# Altium integrated library Capacitor - Aluminium TH.IntLib: 4591 symbols (part 11 of 68)
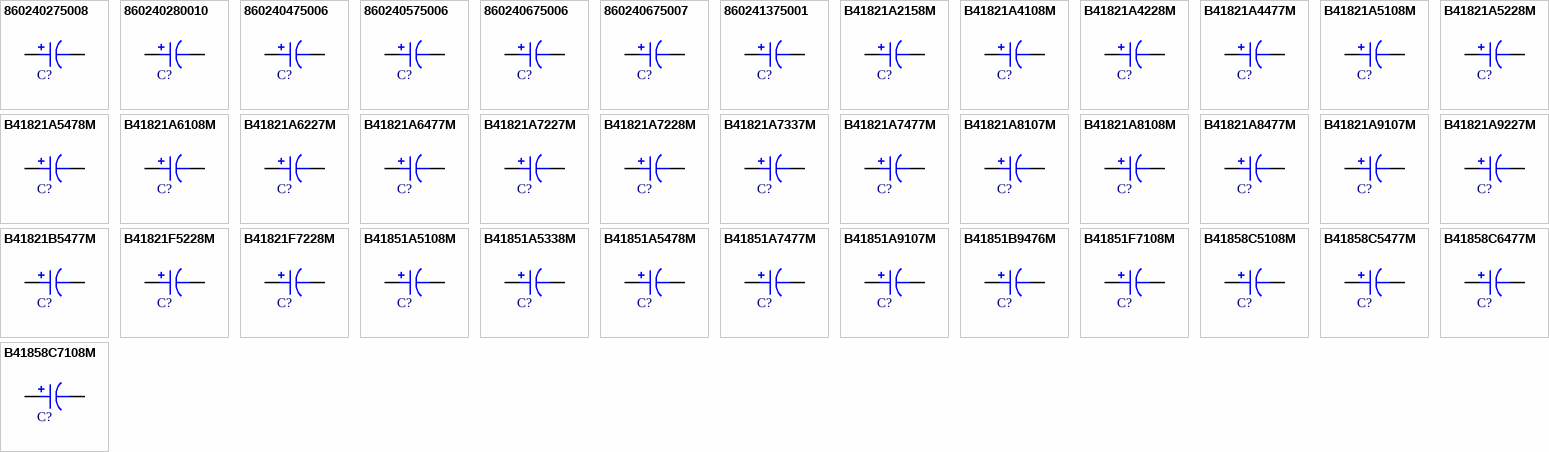
[diagram p124: symbols 860240275008 to B41858C7108M]

## 860240575006
designator C?, comment 100uF  (value not drawn)
CAP 100 UF 20% 35 V; Part Number: 860240575006; Manufacturer: Wurth Electronics Inc; TemperatureRange: -40C ~ 105C; Voltage: 35V; Type: Polar; Ripple Current: 390mA @ 100kHz; Value: 100uF; PartId: 24958; Supplier 1: Digi-Key; Supplier Part Number 1: 732-9321-1-ND; ComponentLink1Description: Datasheet; ComponentLink1URL: http://katalog.we-online.de/pbs/datasheet/860240575006.pdf; ComponentLink2Description: Digi-Key Listing; ComponentLink2URL: https://www.digikey.com/product-detail/en/wurth-electronics-inc/860240575006/732-9321-1-ND/5729259; Tolerance: 20%; Price: 0.52; Device Package: Radial, Can, 10mm
footprint CAP AL TH D10 L5 H14.5
pins: 1, 2

## 860240675006
designator C?, comment 68uF  (value not drawn)
CAP 68 UF 20% 50 V; Part Number: 860240675006; Manufacturer: Wurth Electronics Inc; TemperatureRange: -40C ~ 105C; Voltage: 50V; Type: Polar; Ripple Current: 356mA @ 100kHz; Value: 68uF; PartId: 24788; Supplier 1: Digi-Key; Supplier Part Number 1: 732-9293-1-ND; ComponentLink1Description: Datasheet; ComponentLink1URL: http://katalog.we-online.de/pbs/datasheet/860240675006.pdf; ComponentLink2Description: Digi-Key Listing; ComponentLink2URL: https://www.digikey.com/product-detail/en/wurth-electronics-inc/860240675006/732-9293-1-ND/5729231; Tolerance: 20%; Price: 0.44; Device Package: Radial, Can, 10mm
footprint CAP AL TH D10 L5 H14.5
pins: 1, 2

## 860240675007
designator C?, comment 100uF  (value not drawn)
CAP 100 UF 20% 50 V; Part Number: 860240675007; Manufacturer: Wurth Electronics Inc; TemperatureRange: -40C ~ 105C; Voltage: 50V; Type: Polar; Ripple Current: 500mA @ 100kHz; Value: 100uF; PartId: 25133; Supplier 1: Digi-Key; Supplier Part Number 1: 732-9294-3-ND; ComponentLink1Description: Datasheet; ComponentLink1URL: http://katalog.we-online.de/pbs/datasheet/860240675007.pdf; ComponentLink2Description: Digi-Key Listing; ComponentLink2URL: https://www.digikey.com/product-detail/en/wurth-electronics-inc/860240675007/732-9294-3-ND/5727524; Tolerance: 20%; Price: 0.3578; Device Package: Radial, Can, 10mm
footprint CAP AL TH D10 L5 H17.5
pins: 1, 2

## 860241375001
designator C?, comment 6.8uF  (value not drawn)
CAP 6.8 UF 20% 400 V; Part Number: 860241375001; Manufacturer: Wurth Electronics Inc; TemperatureRange: -25C ~ 105C; Voltage: 400V; Type: Polar; Ripple Current: 220mA @ 100kHz; Value: 6.8uF; PartId: 24720; Supplier 1: Digi-Key; Supplier Part Number 1: 732-9300-3-ND; ComponentLink1Description: Datasheet; ComponentLink1URL: http://katalog.we-online.de/pbs/datasheet/860241375001.pdf; ComponentLink2Description: Digi-Key Listing; ComponentLink2URL: https://www.digikey.com/product-detail/en/wurth-electronics-inc/860241375001/732-9300-3-ND/5727530; Tolerance: 20%; Price: 0.4057; Device Package: Radial, Can, 10mm
footprint CAP AL TH D10 L5 H14.5
pins: 1, 2

## B41821A2158M
designator C?, comment 1500uF  (value not drawn)
CAP ALUM 1500UF 20% 6.3V RADIAL; Part Number: B41821A2158M; Manufacturer: EPCOS (TDK); Type: Polar; Ripple Current: 750mA @ 120Hz; Value: 1500uF; PartId: 25189; Supplier 1: Digi-Key; Supplier Part Number 1: 495-5980-ND; ComponentLink1Description: Datasheet; ComponentLink1URL: http://en.tdk.eu/inf/20/30/db/aec_2013/B41821_B43821.pdf; ComponentLink2Description: Digi-Key Listing; ComponentLink2URL: https://www.digikey.com/product-detail/en/epcos-tdk/B41821A2158M/495-5980-ND/3543469; Tolerance: 20%; Voltage: 6.3V; Price: 0.48; Device Package: Radial, Can, 10mm
footprint CAP AL TH D10 L5 H17.5
pins: 1, 2

## B41821A4108M
designator C?, comment 1000uF  (value not drawn)
CAP ALUM 1000UF 20% 16V RADIAL; Part Number: B41821A4108M; Manufacturer: EPCOS (TDK); TemperatureRange: -40C ~ 85C; Type: Polar; Ripple Current: 790mA @ 120Hz; Value: 1000uF; PartId: 25211; Supplier 1: Digi-Key; Supplier Part Number 1: 495-5981-ND; ComponentLink1Description: Datasheet; ComponentLink1URL: http://en.tdk.eu/inf/20/30/db/aec_2013/B41821_B43821.pdf; ComponentLink2Description: Digi-Key Listing; ComponentLink2URL: https://www.digikey.com/product-detail/en/epcos-tdk/B41821A4108M/495-5981-ND/3543484; Tolerance: 20%; Voltage: 16V; Price: 0.52; Device Package: Radial, Can, 10mm
footprint CAP AL TH D10 L5 H17.5
pins: 1, 2

## B41821A4228M
designator C?, comment 2200uF  (value not drawn)
CAP ALUM 2200UF 20% 16V RADIAL; Part Number: B41821A4228M; Manufacturer: EPCOS (TDK); TemperatureRange: -40C ~ 85C; Type: Polar; Value: 2200uF; PartId: 23956; Supplier 1: Digi-Key; Supplier Part Number 1: 495-6046-ND; ComponentLink1Description: Datasheet; ComponentLink1URL: http://en.tdk.eu/inf/20/30/db/aec_2013/B41821_B43821.pdf; ComponentLink2Description: Digi-Key Listing; ComponentLink2URL: https://www.digikey.com/product-detail/en/epcos-tdk/B41821A4228M/495-6046-ND/3544301; Tolerance: 20%; Voltage: 16V; Price: 0.98; Device Package: Radial, Can, 12.5mm
footprint CAP AL TH D12.5 L5 H27
pins: 1, 2

## B41821A4477M
designator C?, comment 470uF  (value not drawn)
CAP ALUM 470UF 20% 16V RADIAL; Part Number: B41821A4477M; Manufacturer: EPCOS (TDK); TemperatureRange: -40C ~ 85C; Type: Polar; Value: 470uF; PartId: 24874; Supplier 1: Digi-Key; Supplier Part Number 1: 495-5982-ND; ComponentLink1Description: Datasheet; ComponentLink1URL: http://en.tdk.eu/inf/20/30/db/aec_2013/B41821_B43821.pdf; ComponentLink2Description: Digi-Key Listing; ComponentLink2URL: https://www.digikey.com/product-detail/en/epcos-tdk/B41821A4477M/495-5982-ND/3543492; Tolerance: 20%; Voltage: 16V; Price: 0.48; Device Package: Radial, Can, 10mm
footprint CAP AL TH D10 L5 H14.5
pins: 1, 2

## B41821A5108M
designator C?, comment 1000uF  (value not drawn)
CAP ALUM 1000UF 20% 25V RADIAL; Part Number: B41821A5108M; Manufacturer: EPCOS (TDK); TemperatureRange: -40C ~ 85C; Type: Polar; Ripple Current: 960mA @ 120Hz; Value: 1000uF; PartId: 25861; Supplier 1: Digi-Key; Supplier Part Number 1: 495-6021-ND; ComponentLink1Description: Datasheet; ComponentLink1URL: http://en.tdk.eu/inf/20/30/db/aec_2013/B41821_B43821.pdf; ComponentLink2Description: Digi-Key Listing; ComponentLink2URL: https://www.digikey.com/product-detail/en/epcos-tdk/B41821A5108M/495-6021-ND/3543826; Tolerance: 20%; Voltage: 25V; Price: 0.6; Device Package: Radial, Can, 10mm
footprint CAP AL TH D10 L5 H22
pins: 1, 2

## B41821A5228M
designator C?, comment 2200uF  (value not drawn)
CAP ALUM 2200UF 20% 25V RADIAL; Part Number: B41821A5228M; Manufacturer: EPCOS (TDK); TemperatureRange: -40C ~ 85C; Type: Polar; Ripple Current: 1.55A @ 120Hz; Value: 2200uF; PartId: 26446; Supplier 1: Digi-Key; Supplier Part Number 1: 495-6048-ND; ComponentLink1Description: Datasheet; ComponentLink1URL: http://en.tdk.eu/inf/20/30/db/aec_2013/B41821_B43821.pdf; ComponentLink2Description: Digi-Key Listing; ComponentLink2URL: https://www.digikey.com/product-detail/en/epcos-tdk/B41821A5228M/495-6048-ND/3544305; Tolerance: 20%; Voltage: 25V; Price: 1.46; Device Package: Radial, Can, 16mm
footprint CAP AL TH D16 L7.5 H22
pins: 1, 2

## B41821A5478M
designator C?, comment 4700uF  (value not drawn)
CAP ALUM 4700UF 20% 25V RADIAL; Part Number: B41821A5478M; Manufacturer: EPCOS (TDK); TemperatureRange: -40C ~ 85C; Type: Polar; Ripple Current: 2.45A @ 120Hz; Value: 4700uF; PartId: 27044; Supplier 1: Digi-Key; Supplier Part Number 1: 495-6074-ND; ComponentLink1Description: Datasheet; ComponentLink1URL: http://en.tdk.eu/inf/20/30/db/aec_2013/B41821_B43821.pdf; ComponentLink2Description: Digi-Key Listing; ComponentLink2URL: https://www.digikey.com/product-detail/en/epcos-tdk/B41821A5478M/495-6074-ND/3544592; Tolerance: 20%; Voltage: 25V; Price: 1.55; Device Package: Radial, Can, 16mm
footprint CAP AL TH D16 L7.5 H33.5
pins: 1, 2

## B41821A6108M
designator C?, comment 1000uF  (value not drawn)
CAP ALUM 1000UF 20% 50V RADIAL; Part Number: B41821A6108M; Manufacturer: EPCOS (TDK); TemperatureRange: -40C ~ 85C; Type: Polar; Ripple Current: 1.35A @ 120Hz; Value: 1000uF; PartId: 26447; Supplier 1: Digi-Key; Supplier Part Number 1: 495-6049-ND; ComponentLink1Description: Datasheet; ComponentLink1URL: http://en.tdk.eu/inf/20/30/db/aec_2013/B41821_B43821.pdf; ComponentLink2Description: Digi-Key Listing; ComponentLink2URL: https://www.digikey.com/product-detail/en/epcos-tdk/B41821A6108M/495-6049-ND/3544307; Tolerance: 20%; Voltage: 50V; Price: 1.48; Device Package: Radial, Can, 16mm
footprint CAP AL TH D16 L7.5 H22
pins: 1, 2

## B41821A6227M
designator C?, comment 220uF  (value not drawn)
CAP ALUM 220UF 20% 50V RADIAL; Part Number: B41821A6227M; Manufacturer: EPCOS (TDK); TemperatureRange: -40C ~ 85C; Type: Polar; Ripple Current: 430mA @ 120Hz; Value: 220uF; PartId: 24879; Supplier 1: Digi-Key; Supplier Part Number 1: 495-5985-ND; ComponentLink1Description: Datasheet; ComponentLink1URL: http://en.tdk.eu/inf/20/30/db/aec_2013/B41821_B43821.pdf; ComponentLink2Description: Digi-Key Listing; ComponentLink2URL: https://www.digikey.com/product-detail/en/epcos-tdk/B41821A6227M/495-5985-ND/3543507; Tolerance: 20%; Voltage: 50V; Price: 0.48; Device Package: Radial, Can, 10mm
footprint CAP AL TH D10 L5 H14.5
pins: 1, 2

## B41821A6477M
designator C?, comment 470uF  (value not drawn)
CAP ALUM 470UF 20% 50V RADIAL; Part Number: B41821A6477M; Manufacturer: EPCOS (TDK); TemperatureRange: -40C ~ 85C; Type: Polar; Ripple Current: 760mA @ 120Hz; Value: 470uF; PartId: 25868; Supplier 1: Digi-Key; Supplier Part Number 1: 495-6022-ND; ComponentLink1Description: Datasheet; ComponentLink1URL: http://en.tdk.eu/inf/20/30/db/aec_2013/B41821_B43821.pdf; ComponentLink2Description: Digi-Key Listing; ComponentLink2URL: https://www.digikey.com/product-detail/en/epcos-tdk/B41821A6477M/495-6022-ND/3543832; Tolerance: 20%; Voltage: 50V; Price: 0.63; Device Package: Radial, Can, 10mm
footprint CAP AL TH D10 L5 H22
pins: 1, 2

## B41821A7227M
designator C?, comment 220uF  (value not drawn)
CAP ALUM 220UF 20% 35V RADIAL; Part Number: B41821A7227M; Manufacturer: EPCOS (TDK); TemperatureRange: -40C ~ 85C; Type: Polar; Ripple Current: 385mA @ 120Hz; Value: 220uF; PartId: 24878; Supplier 1: Digi-Key; Supplier Part Number 1: 495-5987-ND; ComponentLink1Description: Datasheet; ComponentLink1URL: http://en.tdk.eu/inf/20/30/db/aec_2013/B41821_B43821.pdf; ComponentLink2Description: Digi-Key Listing; ComponentLink2URL: https://www.digikey.com/product-detail/en/epcos-tdk/B41821A7227M/495-5987-ND/3543515; Tolerance: 20%; Voltage: 35V; Price: 0.48; Device Package: Radial, Can, 10mm
footprint CAP AL TH D10 L5 H14.5
pins: 1, 2

## B41821A7228M
designator C?, comment 2200uF  (value not drawn)
CAP ALUM 2200UF 20% 35V RADIAL; Part Number: B41821A7228M; Manufacturer: EPCOS (TDK); TemperatureRange: -40C ~ 85C; Type: Polar; Ripple Current: 1.8A @ 120Hz; Value: 2200uF; PartId: 27090; Supplier 1: Digi-Key; Supplier Part Number 1: 495-6075-ND; ComponentLink1Description: Datasheet; ComponentLink1URL: http://en.tdk.eu/inf/20/30/db/aec_2013/B41821_B43821.pdf; ComponentLink2Description: Digi-Key Listing; ComponentLink2URL: https://www.digikey.com/product-detail/en/epcos-tdk/B41821A7228M/495-6075-ND/3544595; Tolerance: 20%; Voltage: 35V; Price: 1.72; Device Package: Radial, Can, 16mm
footprint CAP AL TH D16 L7.5 H33.5
pins: 1, 2

## B41821A7337M
designator C?, comment 330uF  (value not drawn)
CAP ALUM 330UF 20% 35V RADIAL; Part Number: B41821A7337M; Manufacturer: EPCOS (TDK); TemperatureRange: -40C ~ 85C; Type: Polar; Ripple Current: 490mA @ 120Hz; Value: 330uF; PartId: 24877; Supplier 1: Digi-Key; Supplier Part Number 1: 495-5988-ND; ComponentLink1Description: Datasheet; ComponentLink1URL: http://en.tdk.eu/inf/20/30/db/aec_2013/B41821_B43821.pdf; ComponentLink2Description: Digi-Key Listing; ComponentLink2URL: https://www.digikey.com/product-detail/en/epcos-tdk/B41821A7337M/495-5988-ND/3543518; Tolerance: 20%; Voltage: 35V; Price: 0.48; Device Package: Radial, Can, 10mm
footprint CAP AL TH D10 L5 H14.5
pins: 1, 2

## B41821A7477M
designator C?, comment 470uF  (value not drawn)
CAP ALUM 470UF 20% 35V RADIAL; Part Number: B41821A7477M; Manufacturer: EPCOS (TDK); TemperatureRange: -40C ~ 85C; Type: Polar; Ripple Current: 650mA @ 120Hz; Value: 470uF; PartId: 25209; Supplier 1: Digi-Key; Supplier Part Number 1: 495-5976-ND; ComponentLink1Description: Datasheet; ComponentLink1URL: http://en.tdk.eu/inf/20/30/db/aec_2013/B41821_B43821.pdf; ComponentLink2Description: Digi-Key Listing; ComponentLink2URL: https://www.digikey.com/product-detail/en/epcos-tdk/B41821A7477M/495-5976-ND/3543519; Tolerance: 20%; Voltage: 35V; Price: 0.51; Device Package: Radial, Can, 10mm
footprint CAP AL TH D10 L5 H17.5
pins: 1, 2

## B41821A8107M
designator C?, comment 100uF  (value not drawn)
CAP ALUM 100UF 20% 63V RADIAL; Part Number: B41821A8107M; Manufacturer: EPCOS (TDK); TemperatureRange: -40C ~ 85C; Type: Polar; Ripple Current: 280mA @ 120Hz; Value: 100uF; PartId: 24977; Supplier 1: Digi-Key; Supplier Part Number 1: 495-5989-ND; ComponentLink1Description: Datasheet; ComponentLink1URL: http://en.tdk.eu/inf/20/30/db/aec_2013/B41821_B43821.pdf; ComponentLink2Description: Digi-Key Listing; ComponentLink2URL: https://www.digikey.com/product-detail/en/epcos-tdk/B41821A8107M/495-5989-ND/3543520; Tolerance: 20%; Voltage: 63V; Price: 0.54; Device Package: Radial, Can, 10mm
footprint CAP AL TH D10 L5 H14.5
pins: 1, 2

## B41821A8108M
designator C?, comment 1000uF  (value not drawn)
CAP ALUM 1000UF 20% 63V RADIAL; Part Number: B41821A8108M; Manufacturer: EPCOS (TDK); TemperatureRange: -40C ~ 85C; Type: Polar; Ripple Current: 1.3A @ 120Hz; Value: 1000uF; PartId: 27139; Supplier 1: Digi-Key; Supplier Part Number 1: 495-6076-ND; ComponentLink1Description: Datasheet; ComponentLink1URL: http://en.tdk.eu/inf/20/30/db/aec_2013/B41821_B43821.pdf; ComponentLink2Description: Digi-Key Listing; ComponentLink2URL: https://www.digikey.com/product-detail/en/epcos-tdk/B41821A8108M/495-6076-ND/3544597; Tolerance: 20%; Voltage: 63V; Price: 1.8; Device Package: Radial, Can, 16mm
footprint CAP AL TH D16 L7.5 H33.5
pins: 1, 2

## B41821A8477M
designator C?, comment 470uF  (value not drawn)
CAP ALUM 470UF 20% 63V RADIAL; Part Number: B41821A8477M; Manufacturer: EPCOS (TDK); TemperatureRange: -40C ~ 85C; Type: Polar; Ripple Current: 900mA @ 120Hz; Value: 470uF; PartId: 23470; Supplier 1: Digi-Key; Supplier Part Number 1: 495-6050-ND; ComponentLink1Description: Datasheet; ComponentLink1URL: http://en.tdk.eu/inf/20/30/db/aec_2013/B41821_B43821.pdf; ComponentLink2Description: Digi-Key Listing; ComponentLink2URL: https://www.digikey.com/product-detail/en/epcos-tdk/B41821A8477M/495-6050-ND/3544315; Tolerance: 20%; Voltage: 63V; Price: 1.09; Device Package: Radial, Can, 12.5mm
footprint CAP AL TH D12.5 L5 H22
pins: 1, 2

## B41821A9107M
designator C?, comment 100uF  (value not drawn)
CAP ALUM 100UF 20% 100V RADIAL; Part Number: B41821A9107M; Manufacturer: EPCOS (TDK); TemperatureRange: -40C ~ 85C; Type: Polar; Ripple Current: 350mA @ 120Hz; Value: 100uF; PartId: 25869; Supplier 1: Digi-Key; Supplier Part Number 1: 495-6023-ND; ComponentLink1Description: Datasheet; ComponentLink1URL: http://en.tdk.eu/inf/20/30/db/aec_2013/B41821_B43821.pdf; ComponentLink2Description: Digi-Key Listing; ComponentLink2URL: https://www.digikey.com/product-detail/en/epcos-tdk/B41821A9107M/495-6023-ND/3543846; Tolerance: 20%; Voltage: 100V; Price: 0.63; Device Package: Radial, Can, 10mm
footprint CAP AL TH D10 L5 H22
pins: 1, 2

## B41821A9227M
designator C?, comment 220uF  (value not drawn)
CAP ALUM 220UF 20% 100V RADIAL; Part Number: B41821A9227M; Manufacturer: EPCOS (TDK); TemperatureRange: -40C ~ 85C; Type: Polar; Ripple Current: 620mA @ 120Hz; Value: 220uF; PartId: 23919; Supplier 1: Digi-Key; Supplier Part Number 1: 495-6051-ND; ComponentLink1Description: Datasheet; ComponentLink1URL: http://en.tdk.eu/inf/20/30/db/aec_2013/B41821_B43821.pdf; ComponentLink2Description: Digi-Key Listing; ComponentLink2URL: https://www.digikey.com/product-detail/en/epcos-tdk/B41821A9227M/495-6051-ND/3544319; Tolerance: 20%; Voltage: 100V; Price: 0.95; Device Package: Radial, Can, 12.5mm
footprint CAP AL TH D12.5 L5 H27
pins: 1, 2

## B41821B5477M
designator C?, comment 470uF  (value not drawn)
CAP ALUM 470UF 20% 25V RADIAL; Part Number: B41821B5477M; Manufacturer: EPCOS (TDK); TemperatureRange: -40C ~ 85C; Type: Polar; Ripple Current: 550mA @ 120Hz; Value: 470uF; PartId: 24853; Supplier 1: Digi-Key; Supplier Part Number 1: 495-5991-ND; ComponentLink1Description: Datasheet; ComponentLink1URL: http://en.tdk.eu/inf/20/30/db/aec_2013/B41821_B43821.pdf; ComponentLink2Description: Digi-Key Listing; ComponentLink2URL: https://www.digikey.com/product-detail/en/epcos-tdk/B41821B5477M/495-5991-ND/3543535; Tolerance: 20%; Voltage: 25V; Price: 0.47; Device Package: Radial, Can, 10mm
footprint CAP AL TH D10 L5 H14.5
pins: 1, 2

## B41821F5228M
designator C?, comment 2200uF  (value not drawn)
CAP ALUM 2200UF 20% 25V RADIAL; Part Number: B41821F5228M; Manufacturer: EPCOS (TDK); TemperatureRange: -40C ~ 85C; Type: Polar; Ripple Current: 1.55A @ 120Hz; Value: 2200uF; PartId: 23926; Supplier 1: Digi-Key; Supplier Part Number 1: 495-6052-ND; ComponentLink1Description: Datasheet; ComponentLink1URL: http://en.tdk.eu/inf/20/30/db/aec_2013/B41821_B43821.pdf; ComponentLink2Description: Digi-Key Listing; ComponentLink2URL: https://www.digikey.com/product-detail/en/epcos-tdk/B41821F5228M/495-6052-ND/3544323; Tolerance: 20%; Voltage: 25V; Price: 0.96; Device Package: Radial, Can, 12.5mm
footprint CAP AL TH D12.5 L5 H27
pins: 1, 2

## B41821F7228M
designator C?, comment 2200uF  (value not drawn)
CAP ALUM 2200UF 20% 35V RADIAL; Part Number: B41821F7228M; Manufacturer: EPCOS (TDK); TemperatureRange: -40C ~ 85C; Type: Polar; Ripple Current: 1.8A @ 120Hz; Value: 2200uF; PartId: 26861; Supplier 1: Digi-Key; Supplier Part Number 1: 495-6044-ND; ComponentLink1Description: Datasheet; ComponentLink1URL: http://en.tdk.eu/inf/20/30/db/aec_2013/B41821_B43821.pdf; ComponentLink2Description: Digi-Key Listing; ComponentLink2URL: https://www.digikey.com/product-detail/en/epcos-tdk/B41821F7228M/495-6044-ND/3544324; Tolerance: 20%; Voltage: 35V; Price: 1.23; Device Package: Radial, Can, 16mm
footprint CAP AL TH D16 L7.5 H27
pins: 1, 2

## B41851A5108M
designator C?, comment 1000uF  (value not drawn)
CAP ALUM 1000UF 20% 25V RADIAL; Part Number: B41851A5108M; Manufacturer: EPCOS (TDK); Type: Polar; Ripple Current: 680mA @ 120Hz; Value: 1000uF; PartId: 25899; Supplier 1: Digi-Key; Supplier Part Number 1: 495-6024-ND; ComponentLink1Description: Datasheet; ComponentLink1URL: http://en.tdk.eu/inf/20/30/db/aec_2013/B41851_B43851.pdf; ComponentLink2Description: Digi-Key Listing; ComponentLink2URL: https://www.digikey.com/product-detail/en/epcos-tdk/B41851A5108M/495-6024-ND/3543858; Tolerance: 20%; Voltage: 25V; Price: 0.68; Device Package: Radial, Can, 10mm
footprint CAP AL TH D10 L5 H22
pins: 1, 2

## B41851A5338M
designator C?, comment 3300uF  (value not drawn)
CAP ALUM 3300UF 20% 25V RADIAL; Part Number: B41851A5338M; Manufacturer: EPCOS (TDK); Type: Polar; Ripple Current: 1.4A @ 120Hz; Value: 3300uF; PartId: 26930; Supplier 1: Digi-Key; Supplier Part Number 1: 495-6045-ND; ComponentLink1Description: Datasheet; ComponentLink1URL: http://en.tdk.eu/inf/20/30/db/aec_2013/B41851_B43851.pdf; ComponentLink2Description: Digi-Key Listing; ComponentLink2URL: https://www.digikey.com/product-detail/en/epcos-tdk/B41851A5338M/495-6045-ND/3544332; Tolerance: 20%; Voltage: 25V; Price: 1.8; Device Package: Radial, Can, 16mm
footprint CAP AL TH D16 L7.5 H27
pins: 1, 2

## B41851A5478M
designator C?, comment 4700uF  (value not drawn)
CAP ALUM 4700UF 20% 25V RADIAL; Part Number: B41851A5478M; Manufacturer: EPCOS (TDK); Type: Polar; Ripple Current: 1.7A @ 120Hz; Value: 4700uF; PartId: 27206; Supplier 1: Digi-Key; Supplier Part Number 1: 495-6077-ND; ComponentLink1Description: Datasheet; ComponentLink1URL: http://en.tdk.eu/inf/20/30/db/aec_2013/B41851_B43851.pdf; ComponentLink2Description: Digi-Key Listing; ComponentLink2URL: https://www.digikey.com/product-detail/en/epcos-tdk/B41851A5478M/495-6077-ND/3544602; Tolerance: 20%; Voltage: 25V; Price: 2.13; Device Package: Radial, Can, 16mm
footprint CAP AL TH D16 L7.5 H33.5
pins: 1, 2

## B41851A7477M
designator C?, comment 470uF  (value not drawn)
CAP ALUM 470UF 20% 35V RADIAL; Part Number: B41851A7477M; Manufacturer: EPCOS (TDK); Type: Polar; Ripple Current: 460mA @ 120Hz; Value: 470uF; PartId: 25309; Supplier 1: Digi-Key; Supplier Part Number 1: 495-5977-ND; ComponentLink1Description: Datasheet; ComponentLink1URL: http://en.tdk.eu/inf/20/30/db/aec_2013/B41851_B43851.pdf; ComponentLink2Description: Digi-Key Listing; ComponentLink2URL: https://www.digikey.com/product-detail/en/epcos-tdk/B41851A7477M/495-5977-ND/3543564; Tolerance: 20%; Voltage: 35V; Price: 0.65; Device Package: Radial, Can, 10mm
footprint CAP AL TH D10 L5 H17.5
pins: 1, 2

## B41851A9107M
designator C?, comment 100uF  (value not drawn)
CAP ALUM 100UF 20% 100V RADIAL; Part Number: B41851A9107M; Manufacturer: EPCOS (TDK); Type: Polar; Ripple Current: 245mA @ 120Hz; Value: 100uF; PartId: 25906; Supplier 1: Digi-Key; Supplier Part Number 1: 495-6025-ND; ComponentLink1Description: Datasheet; ComponentLink1URL: http://en.tdk.eu/inf/20/30/db/aec_2013/B41851_B43851.pdf; ComponentLink2Description: Digi-Key Listing; ComponentLink2URL: https://www.digikey.com/product-detail/en/epcos-tdk/B41851A9107M/495-6025-ND/3543867; Tolerance: 20%; Voltage: 100V; Price: 0.69; Device Package: Radial, Can, 10mm
footprint CAP AL TH D10 L5 H22
pins: 1, 2

## B41851B9476M
designator C?, comment 47uF  (value not drawn)
CAP ALUM 47UF 20% 100V RADIAL; Part Number: B41851B9476M; Manufacturer: EPCOS (TDK); Type: Polar; Ripple Current: 160mA @ 120Hz; Value: 47uF; PartId: 24875; Supplier 1: Digi-Key; Supplier Part Number 1: 495-5978-ND; ComponentLink1Description: Datasheet; ComponentLink1URL: http://en.tdk.eu/inf/20/30/db/aec_2013/B41851_B43851.pdf; ComponentLink2Description: Digi-Key Listing; ComponentLink2URL: https://www.digikey.com/product-detail/en/epcos-tdk/B41851B9476M/495-5978-ND/3543571; Tolerance: 20%; Voltage: 100V; Price: 0.48; Device Package: Radial, Can, 10mm
footprint CAP AL TH D10 L5 H14.5
pins: 1, 2

## B41851F7108M
designator C?, comment 1000uF  (value not drawn)
CAP ALUM 1000UF 20% 35V RADIAL; Part Number: B41851F7108M; Manufacturer: EPCOS (TDK); Type: Polar; Ripple Current: 810mA @ 120Hz; Value: 1000uF; PartId: 23367; Supplier 1: Digi-Key; Supplier Part Number 1: 495-6036-ND; ComponentLink1Description: Datasheet; ComponentLink1URL: http://en.tdk.eu/inf/20/30/db/aec_2013/B41851_B43851.pdf; ComponentLink2Description: Digi-Key Listing; ComponentLink2URL: https://www.digikey.com/product-detail/en/epcos-tdk/B41851F7108M/495-6036-ND/3544139; Tolerance: 20%; Voltage: 35V; Price: 0.88; Device Package: Radial, Can, 12.5mm
footprint CAP AL TH D12.5 L5 H22
pins: 1, 2

## B41858C5108M
designator C?, comment 1000uF  (value not drawn)
CAP ALUM 1000UF 20% 25V RADIAL; Part Number: B41858C5108M; Manufacturer: EPCOS (TDK); TemperatureRange: -55C ~ 105C; Type: Polar; Ripple Current: 1.396A @ 100kHz; Impedance: 60 mOhm; Value: 1000uF; PartId: 23988; Supplier 1: Digi-Key; Supplier Part Number 1: 495-6037-ND; ComponentLink1Description: Datasheet; ComponentLink1URL: https://en.tdk.eu/inf/20/30/db/aec/B41858.pdf; ComponentLink2Description: Digi-Key Listing; ComponentLink2URL: https://www.digikey.com/product-detail/en/epcos-tdk/B41858C5108M/495-6037-ND/3544143; Tolerance: 20%; Voltage: 25V; Price: 1.04; Device Package: Radial, Can, 12.5mm
footprint CAP AL TH D12.5 L5 H27
pins: 1, 2

## B41858C5477M
designator C?, comment 470uF  (value not drawn)
CAP ALUM 470UF 20% 25V RADIAL; Part Number: B41858C5477M; Manufacturer: EPCOS (TDK); TemperatureRange: -55C ~ 105C; Type: Polar; Ripple Current: 846mA @ 100kHz; Impedance: 105 mOhm; Value: 470uF; PartId: 25374; Supplier 1: Digi-Key; Supplier Part Number 1: 495-5998-ND; ComponentLink1Description: Datasheet; ComponentLink1URL: https://en.tdk.eu/inf/20/30/db/aec/B41858.pdf; ComponentLink2Description: Digi-Key Listing; ComponentLink2URL: https://www.digikey.com/product-detail/en/epcos-tdk/B41858C5477M/495-5998-ND/3543592; Tolerance: 20%; Voltage: 25V; Price: 0.73; Device Package: Radial, Can, 10mm
footprint CAP AL TH D10 L5 H17.5
pins: 1, 2

## B41858C6477M
designator C?, comment 470uF  (value not drawn)
CAP ALUM 470UF 20% 50V RADIAL; Part Number: B41858C6477M; Manufacturer: EPCOS (TDK); TemperatureRange: -55C ~ 105C; Type: Polar; Ripple Current: 1.3A @ 100kHz; Impedance: 104 mOhm; Value: 470uF; PartId: 23462; Supplier 1: Digi-Key; Supplier Part Number 1: 495-6038-ND; ComponentLink1Description: Datasheet; ComponentLink1URL: https://en.tdk.eu/inf/20/30/db/aec/B41858.pdf; ComponentLink2Description: Digi-Key Listing; ComponentLink2URL: https://www.digikey.com/product-detail/en/epcos-tdk/B41858C6477M/495-6038-ND/3544144; Tolerance: 20%; Voltage: 50V; Price: 1.06; Device Package: Radial, Can, 12.5mm
footprint CAP AL TH D12.5 L5 H22
pins: 1, 2

## B41858C7108M
designator C?, comment 1000uF  (value not drawn)
CAP ALUM 1000UF 20% 35V RADIAL; Part Number: B41858C7108M; Manufacturer: EPCOS (TDK); TemperatureRange: -55C ~ 105C; Type: Polar; Ripple Current: 2.028A @ 100kHz; Impedance: 34 mOhm; Value: 1000uF; PartId: 24000; Supplier 1: Digi-Key; Supplier Part Number 1: 495-6056-ND; ComponentLink1Description: Datasheet; ComponentLink1URL: https://en.tdk.eu/inf/20/30/db/aec/B41858.pdf; ComponentLink2Description: Digi-Key Listing; ComponentLink2URL: https://www.digikey.com/product-detail/en/epcos-tdk/B41858C7108M/495-6056-ND/3544364; Tolerance: 20%; Voltage: 35V; Price: 1.05; Device Package: Radial, Can, 12.5mm
footprint CAP AL TH D12.5 L5 H27
pins: 1, 2

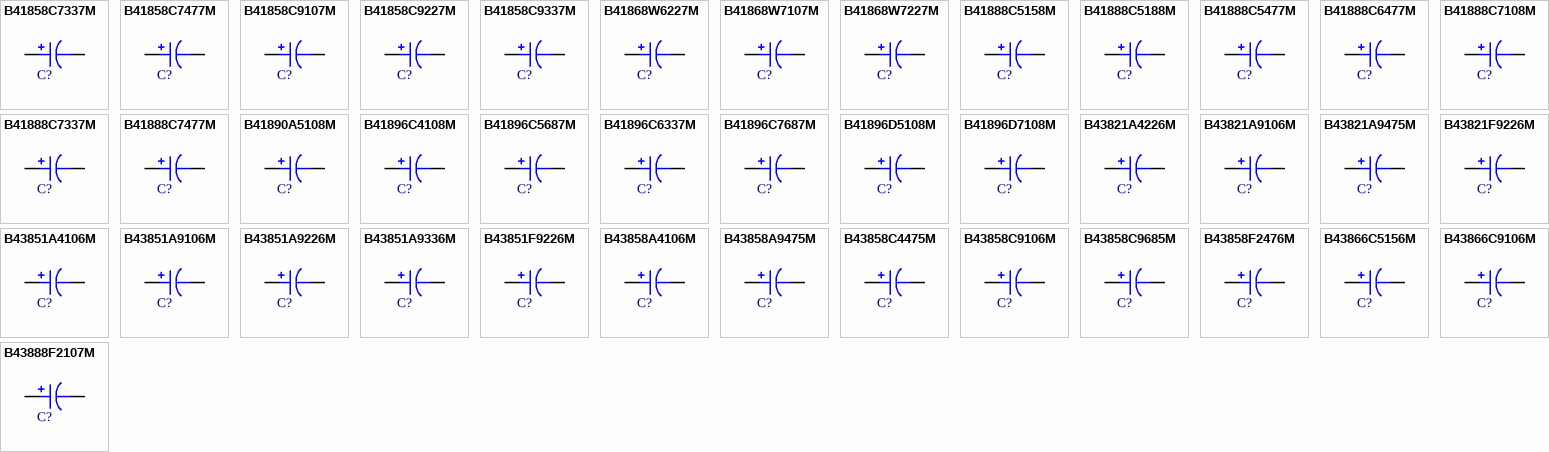
[diagram p18: symbols B41858C7337M to B43888F2107M]

## B41858C7337M
designator C?, comment 330uF  (value not drawn)
CAP ALUM 330UF 20% 35V RADIAL; Part Number: B41858C7337M; Manufacturer: EPCOS (TDK); TemperatureRange: -55C ~ 105C; Type: Polar; Ripple Current: 846mA @ 100kHz; Impedance: 105 mOhm; Value: 330uF; PartId: 25368; Supplier 1: Digi-Key; Supplier Part Number 1: 495-6003-ND; ComponentLink1Description: Datasheet; ComponentLink1URL: https://en.tdk.eu/inf/20/30/db/aec/B41858.pdf; ComponentLink2Description: Digi-Key Listing; ComponentLink2URL: https://www.digikey.com/product-detail/en/epcos-tdk/B41858C7337M/495-6003-ND/3543608; Tolerance: 20%; Voltage: 35V; Price: 0.72; Device Package: Radial, Can, 10mm
footprint CAP AL TH D10 L5 H17.5
pins: 1, 2

## B41858C7477M
designator C?, comment 470uF  (value not drawn)
CAP ALUM 470UF 20% 35V RADIAL; Part Number: B41858C7477M; Manufacturer: EPCOS (TDK); TemperatureRange: -55C ~ 105C; Type: Polar; Ripple Current: 1.202A @ 100kHz; Impedance: 62 mOhm; Value: 470uF; PartId: 25928; Supplier 1: Digi-Key; Supplier Part Number 1: 495-6026-ND; ComponentLink1Description: Datasheet; ComponentLink1URL: https://en.tdk.eu/inf/20/30/db/aec/B41858.pdf; ComponentLink2Description: Digi-Key Listing; ComponentLink2URL: https://www.digikey.com/product-detail/en/epcos-tdk/B41858C7477M/495-6026-ND/3543906; Tolerance: 20%; Voltage: 35V; Price: 0.73; Device Package: Radial, Can, 10mm
footprint CAP AL TH D10 L5 H22
pins: 1, 2

## B41858C9107M
designator C?, comment 100uF  (value not drawn)
CAP ALUM 100UF 20% 100V RADIAL; Part Number: B41858C9107M; Manufacturer: EPCOS (TDK); TemperatureRange: -55C ~ 105C; Type: Polar; Ripple Current: 647mA @ 100kHz; Impedance: 281 mOhm; Value: 100uF; PartId: 23401; Supplier 1: Digi-Key; Supplier Part Number 1: 495-6039-ND; ComponentLink1Description: Datasheet; ComponentLink1URL: https://en.tdk.eu/inf/20/30/db/aec/B41858.pdf; ComponentLink2Description: Digi-Key Listing; ComponentLink2URL: https://www.digikey.com/product-detail/en/epcos-tdk/B41858C9107M/495-6039-ND/3544149; Tolerance: 20%; Voltage: 100V; Price: 0.98; Device Package: Radial, Can, 12.5mm
footprint CAP AL TH D12.5 L5 H22
pins: 1, 2

## B41858C9227M
designator C?, comment 220uF  (value not drawn)
CAP ALUM 220UF 20% 100V RADIAL; Part Number: B41858C9227M; Manufacturer: EPCOS (TDK); TemperatureRange: -55C ~ 105C; Type: Polar; Ripple Current: 1.402A @ 100kHz; Impedance: 91 mOhm; Value: 220uF; PartId: 26895; Supplier 1: Digi-Key; Supplier Part Number 1: 495-6057-ND; ComponentLink1Description: Datasheet; ComponentLink1URL: https://en.tdk.eu/inf/20/30/db/aec/B41858.pdf; ComponentLink2Description: Digi-Key Listing; ComponentLink2URL: https://www.digikey.com/product-detail/en/epcos-tdk/B41858C9227M/495-6057-ND/3544375; Tolerance: 20%; Voltage: 100V; Price: 1.44; Device Package: Radial, Can, 16mm
footprint CAP AL TH D16 L7.5 H27
pins: 1, 2

## B41858C9337M
designator C?, comment 330uF  (value not drawn)
CAP ALUM 330UF 20% 100V RADIAL; Part Number: B41858C9337M; Manufacturer: EPCOS (TDK); TemperatureRange: -55C ~ 105C; Type: Polar; Ripple Current: 1.546A @ 100kHz; Impedance: 90 mOhm; Value: 330uF; PartId: 27164; Supplier 1: Digi-Key; Supplier Part Number 1: 495-6079-ND; ComponentLink1Description: Datasheet; ComponentLink1URL: https://en.tdk.eu/inf/20/30/db/aec/B41858.pdf; ComponentLink2Description: Digi-Key Listing; ComponentLink2URL: https://www.digikey.com/product-detail/en/epcos-tdk/B41858C9337M/495-6079-ND/3544613; Tolerance: 20%; Voltage: 100V; Price: 1.88; Device Package: Radial, Can, 16mm
footprint CAP AL TH D16 L7.5 H33.5
pins: 1, 2

## B41868W6227M
designator C?, comment 220uF  (value not drawn)
CAP ALUM 220UF 20% 50V RADIAL; Part Number: B41868W6227M; Manufacturer: EPCOS (TDK); Type: Polar; Ripple Current: 673mA @ 100kHz; Impedance: 130 mOhm; Value: 220uF; PartId: 23447; Supplier 1: Digi-Key; Supplier Part Number 1: 495-6040-ND; ComponentLink1Description: Datasheet; ComponentLink1URL: //media.digikey.com/pdf/Data%20Sheets/Epcos%20PDFs/B41868_Series.pdf; ComponentLink2Description: Digi-Key Listing; ComponentLink2URL: https://www.digikey.com/product-detail/en/epcos-tdk/B41868W6227M/495-6040-ND/3544153; Tolerance: 20%; Voltage: 50V; Price: 1.04; Device Package: Radial, Can, 12.5mm
footprint CAP AL TH D12.5 L5 H22
pins: 1, 2

## B41868W7107M
designator C?, comment 100uF  (value not drawn)
CAP ALUM 100UF 20% 35V RADIAL; Part Number: B41868W7107M; Manufacturer: EPCOS (TDK); Type: Polar; Ripple Current: 426mA @ 100kHz; Impedance: 208 mOhm; Value: 100uF; PartId: 25371; Supplier 1: Digi-Key; Supplier Part Number 1: 495-6004-ND; ComponentLink1Description: Datasheet; ComponentLink1URL: //media.digikey.com/pdf/Data%20Sheets/Epcos%20PDFs/B41868_Series.pdf; ComponentLink2Description: Digi-Key Listing; ComponentLink2URL: https://www.digikey.com/product-detail/en/epcos-tdk/B41868W7107M/495-6004-ND/3543634; Tolerance: 20%; Voltage: 35V; Price: 0.73; Device Package: Radial, Can, 10mm
footprint CAP AL TH D10 L5 H17.5
pins: 1, 2

## B41868W7227M
designator C?, comment 220uF  (value not drawn)
CAP ALUM 220UF 20% 35V RADIAL; Part Number: B41868W7227M; Manufacturer: EPCOS (TDK); Type: Polar; Ripple Current: 552mA @ 100kHz; Impedance: 147 mOhm; Value: 220uF; PartId: 25953; Supplier 1: Digi-Key; Supplier Part Number 1: 495-6027-ND; ComponentLink1Description: Datasheet; ComponentLink1URL: //media.digikey.com/pdf/Data%20Sheets/Epcos%20PDFs/B41868_Series.pdf; ComponentLink2Description: Digi-Key Listing; ComponentLink2URL: https://www.digikey.com/product-detail/en/epcos-tdk/B41868W7227M/495-6027-ND/3543930; Tolerance: 20%; Voltage: 35V; Price: 0.78; Device Package: Radial, Can, 10mm
footprint CAP AL TH D10 L5 H22
pins: 1, 2

## B41888C5158M
designator C?, comment 1500uF  (value not drawn)
CAP ALUM 1500UF 20% 25V RADIAL; Part Number: B41888C5158M; Manufacturer: EPCOS (TDK); TemperatureRange: -55C ~ 105C; Type: Polar; Ripple Current: 2.459A @ 100kHz; Impedance: 27 mOhm; Value: 1500uF; PartId: 23999; Supplier 1: Digi-Key; Supplier Part Number 1: 495-6058-ND; ComponentLink1Description: Datasheet; ComponentLink1URL: https://en.tdk.eu/inf/20/30/db/aec/B41888.pdf; ComponentLink2Description: Digi-Key Listing; ComponentLink2URL: https://www.digikey.com/product-detail/en/epcos-tdk/B41888C5158M/495-6058-ND/3544411; Tolerance: 20%; Voltage: 25V; Price: 1.05; Device Package: Radial, Can, 12.5mm
footprint CAP AL TH D12.5 L5 H27
pins: 1, 2

## B41888C5188M
designator C?, comment 1800uF  (value not drawn)
CAP ALUM 1800UF 20% 25V RADIAL; Part Number: B41888C5188M; Manufacturer: EPCOS (TDK); TemperatureRange: -55C ~ 105C; Type: Polar; Ripple Current: 2.53A @ 100kHz; Impedance: 26 mOhm; Value: 1800uF; PartId: 26477; Supplier 1: Digi-Key; Supplier Part Number 1: 495-6059-ND; ComponentLink1Description: Datasheet; ComponentLink1URL: https://en.tdk.eu/inf/20/30/db/aec/B41888.pdf; ComponentLink2Description: Digi-Key Listing; ComponentLink2URL: https://www.digikey.com/product-detail/en/epcos-tdk/B41888C5188M/495-6059-ND/3544412; Tolerance: 20%; Voltage: 25V; Price: 1.77; Device Package: Radial, Can, 16mm
footprint CAP AL TH D16 L7.5 H22
pins: 1, 2

## B41888C5477M
designator C?, comment 470uF  (value not drawn)
CAP ALUM 470UF 20% 25V RADIAL; Part Number: B41888C5477M; Manufacturer: EPCOS (TDK); TemperatureRange: -55C ~ 105C; Type: Polar; Ripple Current: 1.24A @ 100kHz; Impedance: 59 mOhm; Value: 470uF; PartId: 25305; Supplier 1: Digi-Key; Supplier Part Number 1: 495-6006-ND; ComponentLink1Description: Datasheet; ComponentLink1URL: https://en.tdk.eu/inf/20/30/db/aec/B41888.pdf; ComponentLink2Description: Digi-Key Listing; ComponentLink2URL: https://www.digikey.com/product-detail/en/epcos-tdk/B41888C5477M/495-6006-ND/3543652; Tolerance: 20%; Voltage: 25V; Price: 0.65; Device Package: Radial, Can, 10mm
footprint CAP AL TH D10 L5 H17.5
pins: 1, 2

## B41888C6477M
designator C?, comment 470uF  (value not drawn)
CAP ALUM 470UF 20% 50V RADIAL; Part Number: B41888C6477M; Manufacturer: EPCOS (TDK); TemperatureRange: -55C ~ 105C; Type: Polar; Ripple Current: 1.8A @ 100kHz; Impedance: 60 mOhm; Value: 470uF; PartId: 23473; Supplier 1: Digi-Key; Supplier Part Number 1: 495-6041-ND; ComponentLink1Description: Datasheet; ComponentLink1URL: https://en.tdk.eu/inf/20/30/db/aec/B41888.pdf; ComponentLink2Description: Digi-Key Listing; ComponentLink2URL: https://www.digikey.com/product-detail/en/epcos-tdk/B41888C6477M/495-6041-ND/3544158; Tolerance: 20%; Voltage: 50V; Price: 1.11; Device Package: Radial, Can, 12.5mm
footprint CAP AL TH D12.5 L5 H22
pins: 1, 2

## B41888C7108M
designator C?, comment 1000uF  (value not drawn)
CAP ALUM 1000UF 20% 35V RADIAL; Part Number: B41888C7108M; Manufacturer: EPCOS (TDK); TemperatureRange: -55C ~ 105C; Type: Polar; Ripple Current: 2.459A @ 100kHz; Impedance: 27 mOhm; Value: 1000uF; PartId: 24072; Supplier 1: Digi-Key; Supplier Part Number 1: 495-6060-ND; ComponentLink1Description: Datasheet; ComponentLink1URL: https://en.tdk.eu/inf/20/30/db/aec/B41888.pdf; ComponentLink2Description: Digi-Key Listing; ComponentLink2URL: https://www.digikey.com/product-detail/en/epcos-tdk/B41888C7108M/495-6060-ND/3544416; Tolerance: 20%; Voltage: 35V; Price: 1.21; Device Package: Radial, Can, 12.5mm
footprint CAP AL TH D12.5 L5 H27
pins: 1, 2

## B41888C7337M
designator C?, comment 330uF  (value not drawn)
CAP ALUM 330UF 20% 35V RADIAL; Part Number: B41888C7337M; Manufacturer: EPCOS (TDK); TemperatureRange: -55C ~ 105C; Type: Polar; Ripple Current: 1.24A @ 100kHz; Impedance: 59 mOhm; Value: 330uF; PartId: 25372; Supplier 1: Digi-Key; Supplier Part Number 1: 495-6008-ND; ComponentLink1Description: Datasheet; ComponentLink1URL: https://en.tdk.eu/inf/20/30/db/aec/B41888.pdf; ComponentLink2Description: Digi-Key Listing; ComponentLink2URL: https://www.digikey.com/product-detail/en/epcos-tdk/B41888C7337M/495-6008-ND/3543662; Tolerance: 20%; Voltage: 35V; Price: 0.73; Device Package: Radial, Can, 10mm
footprint CAP AL TH D10 L5 H17.5
pins: 1, 2

## B41888C7477M
designator C?, comment 470uF  (value not drawn)
CAP ALUM 470UF 20% 35V RADIAL; Part Number: B41888C7477M; Manufacturer: EPCOS (TDK); TemperatureRange: -55C ~ 105C; Type: Polar; Ripple Current: 1.5A @ 100kHz; Impedance: 46 mOhm; Value: 470uF; PartId: 25966; Supplier 1: Digi-Key; Supplier Part Number 1: 495-6028-ND; ComponentLink1Description: Datasheet; ComponentLink1URL: https://en.tdk.eu/inf/20/30/db/aec/B41888.pdf; ComponentLink2Description: Digi-Key Listing; ComponentLink2URL: https://www.digikey.com/product-detail/en/epcos-tdk/B41888C7477M/495-6028-ND/3543939; Tolerance: 20%; Voltage: 35V; Price: 0.85; Device Package: Radial, Can, 10mm
footprint CAP AL TH D10 L5 H22
pins: 1, 2

## B41890A5108M
designator C?, comment 1000uF  (value not drawn)
CAP ALUM 1000UF 20% 25V RADIAL; Part Number: B41890A5108M; Manufacturer: EPCOS (TDK); TemperatureRange: -55C ~ 105C; Type: Polar; Ripple Current: 2.28A @ 100kHz; Impedance: 38 mOhm; Value: 1000uF; PartId: 24153; Supplier 1: Digi-Key; Supplier Part Number 1: 495-6061-ND; ComponentLink1Description: Datasheet; ComponentLink1URL: https://en.tdk.eu/inf/20/30/db/aec/B41890.pdf; ComponentLink2Description: Digi-Key Listing; ComponentLink2URL: https://www.digikey.com/product-detail/en/epcos-tdk/B41890A5108M/495-6061-ND/3494557; Tolerance: 20%; Voltage: 25V; Price: 1.54; Device Package: Radial, Can, 12.5mm
footprint CAP AL TH D12.5 L5 H27
pins: 1, 2

## B41896C4108M
designator C?, comment 1000uF  (value not drawn)
CAP ALUM 1000UF 20% 16V RADIAL; Part Number: B41896C4108M; Manufacturer: EPCOS (TDK); TemperatureRange: -55C ~ 125C; Type: Polar; Ripple Current: 1.82A @ 100kHz; Impedance: 55 mOhm; Value: 1000uF; PartId: 23474; Supplier 1: Digi-Key; Supplier Part Number 1: 495-6042-ND; ComponentLink1Description: Datasheet; ComponentLink1URL: https://en.tdk.eu/inf/20/30/db/aec/B41896.pdf; ComponentLink2Description: Digi-Key Listing; ComponentLink2URL: https://www.digikey.com/product-detail/en/epcos-tdk/B41896C4108M/495-6042-ND/3494636; Tolerance: 20%; Voltage: 16V; Price: 1.11; Device Package: Radial, Can, 12.5mm
footprint CAP AL TH D12.5 L5 H22
pins: 1, 2

## B41896C5687M
designator C?, comment 680uF  (value not drawn)
CAP ALUM 680UF 20% 25V RADIAL; Part Number: B41896C5687M; Manufacturer: EPCOS (TDK); TemperatureRange: -55C ~ 125C; Type: Polar; Ripple Current: 1.205A @ 100kHz; Impedance: 62 mOhm; Value: 680uF; PartId: 25961; Supplier 1: Digi-Key; Supplier Part Number 1: 495-6029-ND; ComponentLink1Description: Datasheet; ComponentLink1URL: https://en.tdk.eu/inf/20/30/db/aec/B41896.pdf; ComponentLink2Description: Digi-Key Listing; ComponentLink2URL: https://www.digikey.com/product-detail/en/epcos-tdk/B41896C5687M/495-6029-ND/3494659; Tolerance: 20%; Voltage: 25V; Price: 0.83; Device Package: Radial, Can, 10mm
footprint CAP AL TH D10 L5 H22
pins: 1, 2

## B41896C6337M
designator C?, comment 330uF  (value not drawn)
CAP ALUM 330UF 20% 50V RADIAL; Part Number: B41896C6337M; Manufacturer: EPCOS (TDK); TemperatureRange: -55C ~ 125C; Type: Polar; Ripple Current: 1.82A @ 100kHz; Impedance: 55 mOhm; Value: 330uF; PartId: 23507; Supplier 1: Digi-Key; Supplier Part Number 1: 495-6043-ND; ComponentLink1Description: Datasheet; ComponentLink1URL: https://en.tdk.eu/inf/20/30/db/aec/B41896.pdf; ComponentLink2Description: Digi-Key Listing; ComponentLink2URL: https://www.digikey.com/product-detail/en/epcos-tdk/B41896C6337M/495-6043-ND/3494669; Tolerance: 20%; Voltage: 50V; Price: 1.36; Device Package: Radial, Can, 12.5mm
footprint CAP AL TH D12.5 L5 H22
pins: 1, 2

## B41896C7687M
designator C?, comment 680uF  (value not drawn)
CAP ALUM 680UF 20% 35V RADIAL; Part Number: B41896C7687M; Manufacturer: EPCOS (TDK); TemperatureRange: -55C ~ 125C; Type: Polar; Ripple Current: 2.28A @ 100kHz; Impedance: 38 mOhm; Value: 680uF; PartId: 24140; Supplier 1: Digi-Key; Supplier Part Number 1: 495-6062-ND; ComponentLink1Description: Datasheet; ComponentLink1URL: https://en.tdk.eu/inf/20/30/db/aec/B41896.pdf; ComponentLink2Description: Digi-Key Listing; ComponentLink2URL: https://www.digikey.com/product-detail/en/epcos-tdk/B41896C7687M/495-6062-ND/3494685; Tolerance: 20%; Voltage: 35V; Price: 1.48; Device Package: Radial, Can, 12.5mm
footprint CAP AL TH D12.5 L5 H27
pins: 1, 2

## B41896D5108M
designator C?, comment 1000uF  (value not drawn)
CAP ALUM 1000UF 20% 25V RADIAL; Part Number: B41896D5108M; Manufacturer: EPCOS (TDK); TemperatureRange: -55C ~ 125C; Type: Polar; Ripple Current: 2.28A @ 100kHz; Impedance: 34 mOhm; Value: 1000uF; PartId: 26478; Supplier 1: Digi-Key; Supplier Part Number 1: 495-6063-ND; ComponentLink1Description: Datasheet; ComponentLink1URL: https://en.tdk.eu/inf/20/30/db/aec/B41896.pdf; ComponentLink2Description: Digi-Key Listing; ComponentLink2URL: https://www.digikey.com/product-detail/en/epcos-tdk/B41896D5108M/495-6063-ND/3494692; Tolerance: 20%; Voltage: 25V; Price: 1.79; Device Package: Radial, Can, 16mm
footprint CAP AL TH D16 L7.5 H22
pins: 1, 2

## B41896D7108M
designator C?, comment 1000uF  (value not drawn)
CAP ALUM 1000UF 20% 35V RADIAL; Part Number: B41896D7108M; Manufacturer: EPCOS (TDK); TemperatureRange: -55C ~ 125C; Type: Polar; Ripple Current: 3.718A @ 100kHz; Impedance: 26 mOhm; Value: 1000uF; PartId: 26950; Supplier 1: Digi-Key; Supplier Part Number 1: 495-6064-ND; ComponentLink1Description: Datasheet; ComponentLink1URL: https://en.tdk.eu/inf/20/30/db/aec/B41896.pdf; ComponentLink2Description: Digi-Key Listing; ComponentLink2URL: https://www.digikey.com/product-detail/en/epcos-tdk/B41896D7108M/495-6064-ND/3494699; Tolerance: 20%; Voltage: 35V; Price: 2.04; Device Package: Radial, Can, 16mm
footprint CAP AL TH D16 L7.5 H27
pins: 1, 2

## B43821A4226M
designator C?, comment 22uF  (value not drawn)
CAP ALUM 22UF 20% 350V RADIAL; Part Number: B43821A4226M; Manufacturer: EPCOS (TDK); TemperatureRange: -25C ~ 85C; Type: Polar; Ripple Current: 175mA @ 120Hz; Value: 22uF; PartId: 24111; Supplier 1: Digi-Key; Supplier Part Number 1: 495-6065-ND; ComponentLink1Description: Datasheet; ComponentLink1URL: http://en.tdk.eu/inf/20/30/db/aec_2013/B41821_B43821.pdf; ComponentLink2Description: Digi-Key Listing; ComponentLink2URL: https://www.digikey.com/product-detail/en/epcos-tdk/B43821A4226M/495-6065-ND/3544446; Tolerance: 20%; Voltage: 350V; Price: 1.38; Device Package: Radial, Can, 12.5mm
footprint CAP AL TH D12.5 L5 H27
pins: 1, 2

## B43821A9106M
designator C?, comment 10uF  (value not drawn)
CAP ALUM 10UF 20% 400V RADIAL; Part Number: B43821A9106M; Manufacturer: EPCOS (TDK); TemperatureRange: -25C ~ 85C; Type: Polar; Ripple Current: 115mA @ 120Hz; Value: 10uF; PartId: 25949; Supplier 1: Digi-Key; Supplier Part Number 1: 495-6030-ND; ComponentLink1Description: Datasheet; ComponentLink1URL: http://en.tdk.eu/inf/20/30/db/aec_2013/B41821_B43821.pdf; ComponentLink2Description: Digi-Key Listing; ComponentLink2URL: https://www.digikey.com/product-detail/en/epcos-tdk/B43821A9106M/495-6030-ND/3543971; Tolerance: 20%; Voltage: 400V; Price: 0.76; Device Package: Radial, Can, 10mm
footprint CAP AL TH D10 L5 H22
pins: 1, 2

## B43821A9475M
designator C?, comment 4.7uF  (value not drawn)
CAP ALUM 4.7UF 20% 400V RADIAL; Part Number: B43821A9475M; Manufacturer: EPCOS (TDK); TemperatureRange: -25C ~ 85C; Type: Polar; Ripple Current: 60mA @ 120Hz; Value: 4.7uF; PartId: 25363; Supplier 1: Digi-Key; Supplier Part Number 1: 495-6011-ND; ComponentLink1Description: Datasheet; ComponentLink1URL: //media.digikey.com/pdf/Data%20Sheets/Epcos%20PDFs/B41821_43821_Series_2006.pdf; ComponentLink2Description: Digi-Key Listing; ComponentLink2URL: https://www.digikey.com/product-detail/en/epcos-tdk/B43821A9475M/495-6011-ND/3543703; Tolerance: 20%; Voltage: 400V; Price: 0.71; Device Package: Radial, Can, 10mm
footprint CAP AL TH D10 L5 H17.5
pins: 1, 2

## B43821F9226M
designator C?, comment 22uF  (value not drawn)
CAP ALUM 22UF 20% 400V RADIAL; Part Number: B43821F9226M; Manufacturer: EPCOS (TDK); TemperatureRange: -25C ~ 85C; Type: Polar; Ripple Current: 200mA @ 120Hz; Value: 22uF; PartId: 24082; Supplier 1: Digi-Key; Supplier Part Number 1: 495-6066-ND; ComponentLink1Description: Datasheet; ComponentLink1URL: http://en.tdk.eu/inf/20/30/db/aec_2013/B41821_B43821.pdf; ComponentLink2Description: Digi-Key Listing; ComponentLink2URL: https://www.digikey.com/product-detail/en/epcos-tdk/B43821F9226M/495-6066-ND/3544459; Tolerance: 20%; Voltage: 400V; Price: 1.22; Device Package: Radial, Can, 12.5mm
footprint CAP AL TH D12.5 L5 H27
pins: 1, 2

## B43851A4106M
designator C?, comment 10uF  (value not drawn)
CAP ALUM 10UF 20% 350V RADIAL; Part Number: B43851A4106M; Manufacturer: EPCOS (TDK); Type: Polar; Ripple Current: 67mA @ 120Hz; Value: 10uF; PartId: 25986; Supplier 1: Digi-Key; Supplier Part Number 1: 495-6031-ND; ComponentLink1Description: Datasheet; ComponentLink1URL: //media.digikey.com/pdf/Data%20Sheets/Epcos%20PDFs/B41851,B43851.pdf; ComponentLink2Description: Digi-Key Listing; ComponentLink2URL: https://www.digikey.com/product-detail/en/epcos-tdk/B43851A4106M/495-6031-ND/3543989; Tolerance: 20%; Voltage: 350V; Price: 0.96; Device Package: Radial, Can, 10mm
footprint CAP AL TH D10 L5 H22
pins: 1, 2

## B43851A9106M
designator C?, comment 10uF  (value not drawn)
CAP ALUM 10UF 20% 400V RADIAL; Part Number: B43851A9106M; Manufacturer: EPCOS (TDK); Type: Polar; Ripple Current: 67mA @ 120Hz; Value: 10uF; PartId: 25950; Supplier 1: Digi-Key; Supplier Part Number 1: 495-6020-ND; ComponentLink1Description: Datasheet; ComponentLink1URL: http://en.tdk.eu/inf/20/30/db/aec_2013/B41851_B43851.pdf; ComponentLink2Description: Digi-Key Listing; ComponentLink2URL: https://www.digikey.com/product-detail/en/epcos-tdk/B43851A9106M/495-6020-ND/3543992; Tolerance: 20%; Voltage: 400V; Price: 0.76; Device Package: Radial, Can, 10mm
footprint CAP AL TH D10 L5 H22
pins: 1, 2

## B43851A9226M
designator C?, comment 22uF  (value not drawn)
CAP ALUM 22UF 20% 400V RADIAL; Part Number: B43851A9226M; Manufacturer: EPCOS (TDK); Type: Polar; Ripple Current: 126mA @ 120Hz; Value: 22uF; PartId: 26487; Supplier 1: Digi-Key; Supplier Part Number 1: 495-6067-ND; ComponentLink1Description: Datasheet; ComponentLink1URL: //media.digikey.com/pdf/Data%20Sheets/Epcos%20PDFs/B41851,B43851.pdf; ComponentLink2Description: Digi-Key Listing; ComponentLink2URL: https://www.digikey.com/product-detail/en/epcos-tdk/B43851A9226M/495-6067-ND/3544470; Tolerance: 20%; Voltage: 400V; Price: 1.83; Device Package: Radial, Can, 16mm
footprint CAP AL TH D16 L7.5 H22
pins: 1, 2

## B43851A9336M
designator C?, comment 33uF  (value not drawn)
CAP ALUM 33UF 20% 400V RADIAL; Part Number: B43851A9336M; Manufacturer: EPCOS (TDK); Type: Polar; Ripple Current: 168mA @ 120Hz; Value: 33uF; PartId: 26963; Supplier 1: Digi-Key; Supplier Part Number 1: 495-6068-ND; ComponentLink1Description: Datasheet; ComponentLink1URL: //media.digikey.com/pdf/Data%20Sheets/Epcos%20PDFs/B41851,B43851.pdf; ComponentLink2Description: Digi-Key Listing; ComponentLink2URL: https://www.digikey.com/product-detail/en/epcos-tdk/B43851A9336M/495-6068-ND/3544472; Tolerance: 20%; Voltage: 400V; Price: 2.3; Device Package: Radial, Can, 16mm
footprint CAP AL TH D16 L7.5 H27
pins: 1, 2

## B43851F9226M
designator C?, comment 22uF  (value not drawn)
CAP ALUM 22UF 20% 400V RADIAL; Part Number: B43851F9226M; Manufacturer: EPCOS (TDK); Type: Polar; Ripple Current: 140mA @ 120Hz; Value: 22uF; PartId: 24100; Supplier 1: Digi-Key; Supplier Part Number 1: 495-6069-ND; ComponentLink1Description: Datasheet; ComponentLink1URL: http://en.tdk.eu/inf/20/30/db/aec_2013/B41851_B43851.pdf; ComponentLink2Description: Digi-Key Listing; ComponentLink2URL: https://www.digikey.com/product-detail/en/epcos-tdk/B43851F9226M/495-6069-ND/3544476; Tolerance: 20%; Voltage: 400V; Price: 1.31; Device Package: Radial, Can, 12.5mm
footprint CAP AL TH D12.5 L5 H27
pins: 1, 2

## B43858A4106M
designator C?, comment 10uF  (value not drawn)
CAP ALUM 10UF 20% 350V RADIAL; Part Number: B43858A4106M; Manufacturer: EPCOS (TDK); TemperatureRange: -25C ~ 105C; Type: Polar; Ripple Current: 300mA @ 100kHz; Value: 10uF; PartId: 24112; Supplier 1: Digi-Key; Supplier Part Number 1: 495-6070-ND; ComponentLink1Description: Datasheet; ComponentLink1URL: //media.digikey.com/pdf/Data%20Sheets/Epcos%20PDFs/B43858_Oct_2002.pdf; ComponentLink2Description: Digi-Key Listing; ComponentLink2URL: https://www.digikey.com/product-detail/en/epcos-tdk/B43858A4106M/495-6070-ND/3544485; Tolerance: 20%; Voltage: 350V; Price: 1.38; Device Package: Radial, Can, 12.5mm
footprint CAP AL TH D12.5 L5 H27
pins: 1, 2

## B43858A9475M
designator C?, comment 4.7uF  (value not drawn)
CAP ALUM 4.7UF 20% 400V RADIAL; Part Number: B43858A9475M; Manufacturer: EPCOS (TDK); TemperatureRange: -25C ~ 105C; Type: Polar; Ripple Current: 180mA @ 100kHz; Value: 4.7uF; PartId: 25989; Supplier 1: Digi-Key; Supplier Part Number 1: 495-6032-ND; ComponentLink1Description: Datasheet; ComponentLink1URL: //media.digikey.com/pdf/Data%20Sheets/Epcos%20PDFs/B43858_Oct_2002.pdf; ComponentLink2Description: Digi-Key Listing; ComponentLink2URL: https://www.digikey.com/product-detail/en/epcos-tdk/B43858A9475M/495-6032-ND/3544023; Tolerance: 20%; Voltage: 400V; Price: 1.02; Device Package: Radial, Can, 10mm
footprint CAP AL TH D10 L5 H22
pins: 1, 2

## B43858C4475M
designator C?, comment 4.7uF  (value not drawn)
CAP ALUM 4.7UF 20% 350V RADIAL; Part Number: B43858C4475M; Manufacturer: EPCOS (TDK); TemperatureRange: -25C ~ 105C; Type: Polar; Ripple Current: 180mA @ 100kHz; Value: 4.7uF; PartId: 25405; Supplier 1: Digi-Key; Supplier Part Number 1: 495-6014-ND; ComponentLink1Description: Datasheet; ComponentLink1URL: //media.digikey.com/pdf/Data%20Sheets/Epcos%20PDFs/B43858_Nov08.pdf; ComponentLink2Description: Digi-Key Listing; ComponentLink2URL: https://www.digikey.com/product-detail/en/epcos-tdk/B43858C4475M/495-6014-ND/3543744; Tolerance: 20%; Voltage: 350V; Price: 0.81; Device Package: Radial, Can, 10mm
footprint CAP AL TH D10 L5 H17.5
pins: 1, 2